# Altium footprint library farnell.PCBLIB: 1 footprints
Each footprint in its own frame and in the unit in brackets; x right, y up, seen from the top. Pads: shape width x height; smd on the part's side, far side on the other; paste and mask are expansions set on the pad; w line width, h text height; cw(c..) or ccw(c..) is an arc to the next point about the centre after c.
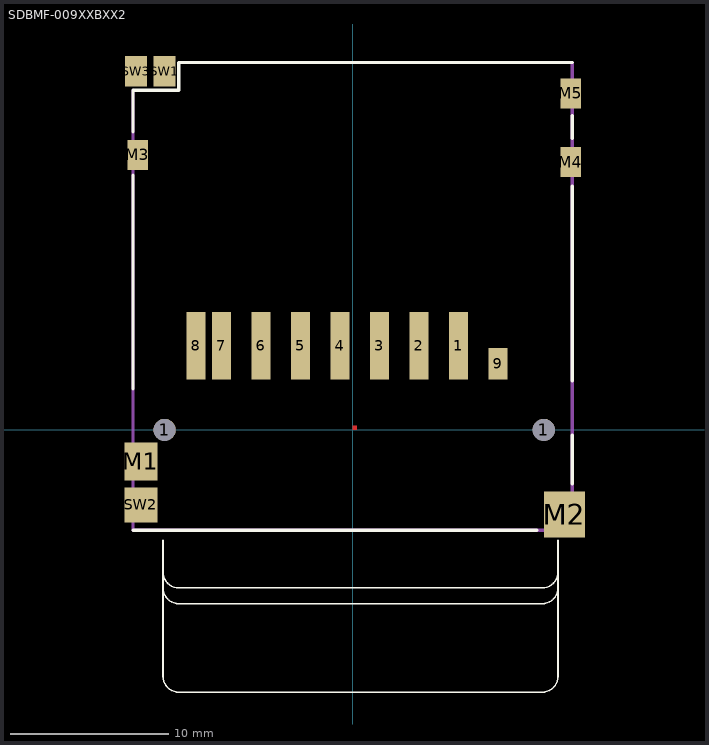
[diagram p0: the footprint, top view; thin cyan lines are the x and y axes]

## SDBMF-009XXBXX2 [mm]
pads (19):
  round 1.4 hole 1.4: 1(-11.9,0) 1(12.1,0)
  rect 1.2x4.3 smd: 1(6.7,5.325) 2(4.2,5.325) 3(1.7,5.325) 4(-0.8,5.325) 5(-3.3,5.325) 6(-5.8,5.325) 7(-8.3,5.325) 8(-9.925,5.325)
  rect 1.2x2 smd: 9(9.2,4.175)
  rect 2.1x2.4 smd: M1(-13.4,-2)
  rect 2.6x2.9 smd: M2(13.4,-5.35)
  rect 1.3x1.9 smd: M3(-13.6,17.4) M4(13.8,16.95) M5(13.8,21.3)
  rect 1.4x1.95 smd: SW1(-11.9,22.7) SW3(-13.7,22.7)
  rect 2.1x2.2 smd: SW2(-13.4,-4.75)
Top Layer:
  region: 0,0 0.254,0 0.254,0.254 0,0.254
  region: 0,0 0.254,0 0.254,0.254 0,0.254
Top Overlay:
  lines w0.102: -12,-7 -12,-9 ; 13,-7 13,-9 ; -12,-10 -12,-9 ; -12,-10 -12,-15.6 ccw(c-11,-15.6) -11,-16.6 12,-16.6 ccw(c12,-15.6) 13,-15.6 13,-10 ; -12,-10 ccw(c-11,-10) -11,-11 12,-11 ccw(c12,-10) 13,-10 ; -12,-9 ccw(c-11,-9) -11,-10 12,-10 ccw(c12,-9) 13,-9 ; 13,-10 13,-9
  lines w0.203: -13.9,-6.35 11.665,-6.35 ; -13.9,2.591 -13.9,16.115 ; -13.9,18.847 -13.9,21.5 -11,21.5 -11,23.25 13.9,23.25 ; 13.9,-3.404 13.9,-0.321 ; 13.9,3.099 13.9,15.427 ; 13.9,18.44 13.9,19.897
Top Paste:
  region: 0,0 0.254,0 0.254,0.254 0,0.254
  region: 0,0 0.254,0 0.254,0.254 0,0.254
Top Solder:
  region: 0,0 0.254,0 0.254,0.254 0,0.254
  region: 0,0 0.254,0 0.254,0.254 0,0.254
Mechanical 16:
  lines w0.203: -13.9,21.5 -13.9,-6.35 13.9,-6.35 13.9,23.25